# Altium schematic symbol library SOT-23 2SC3356-T1B-A    S_YS档.Schlib: 1 symbol
Pins are listed as number, name and electrical type; pins without a type are passive.

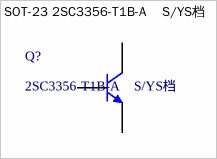
[diagram p0: symbol SOT-23 2SC3356-T1B-A    S/YS档]

## SOT-23 2SC3356-T1B-A    S/YS档
designator Q?, comment 2SC3356-T1B-A    S/YS档
三极管
footprint SOT-23(SOT-23-3)
pins: 1 B, 2 E, 3 C